# Altium schematic symbol library TPS54XX.SchLib: 1 symbol
Pins are listed as number, name and electrical type; pins without a type are passive.

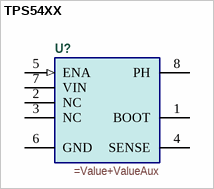
[diagram p0: symbol TPS54XX]

## TPS54XX
designator U?
=Description
pins: 1 BOOT, 2 NC, 3 NC, 4 SENSE (power), 5 ENA (in), 6 GND (power), 7 VIN (power), 8 PH (power)